# Altium schematic symbol library 29.4mm_Heat_Sink.SchLib: 1 symbol
Pins are listed as number, name and electrical type; pins without a type are passive.

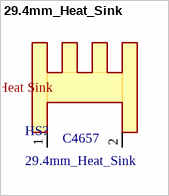
[diagram p0: symbol 29.4mm_Heat_Sink]

## 29.4mm_Heat_Sink
designator HS?  LCSC: C4657
29.4mm_Heat_Sink Small_C4657
footprint 29.4mm_Heat_Sink
pins: 1, 2
text: Heat Sink